# Altium schematic symbol library MUR1520G.SchLib: 1 symbol
Pins are listed as number, name and electrical type; pins without a type are passive.

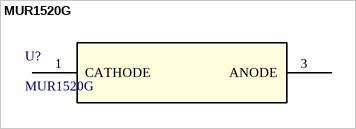
[diagram p0: symbol MUR1520G]

## MUR1520G
designator U?
Description; Manufacturer_Name: onsemi; Copyright: Copyright (C) 2025 Ultra Librarian. All rights reserved.; Manufacturer_Part_Number: MUR1520G; RefDes: RefDes; Type: Type
footprint TO-220AC_ONS
pins: 1 CATHODE, 3 ANODE